# Altium footprint library CAP_RCE5C1H104J2A2H03B.PcbLib: 1 footprints
Each footprint in its own frame and in the unit in brackets; x right, y up, seen from the top. Pads: shape width x height; smd on the part's side, far side on the other; paste and mask are expansions set on the pad; w line width, h text height; cw(c..) or ccw(c..) is an arc to the next point about the centre after c.
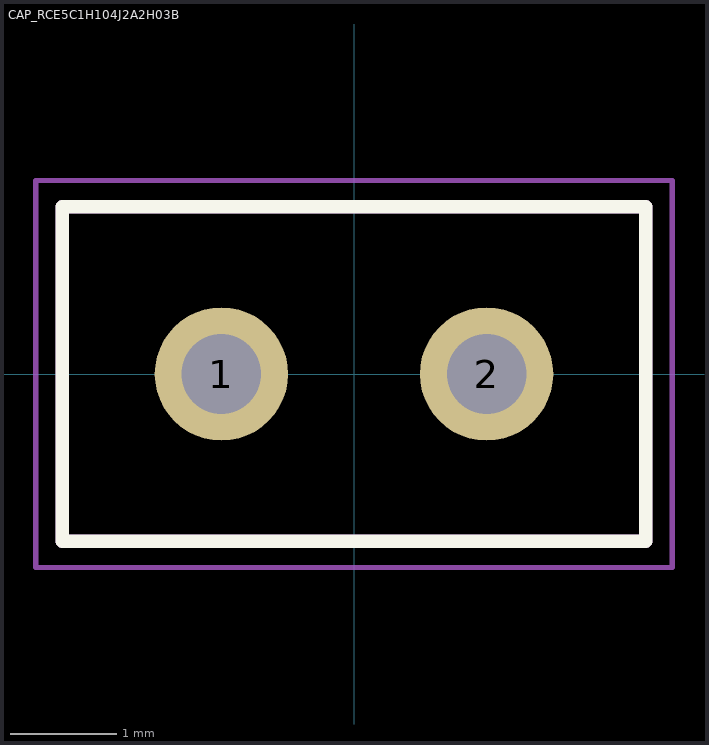
[diagram p0: the footprint, top view; thin cyan lines are the x and y axes]

## CAP_RCE5C1H104J2A2H03B [mm]
pads (2):
  round 1.258 hole 0.75: 1(-1.25,0) 2(1.25,0)
Top Overlay:
  lines w0.127: -2.75,-1.575 2.75,-1.575 2.75,1.575 -2.75,1.575 -2.75,-1.575
Mechanical 13:
  lines w0.127: -2.75,-1.575 -2.75,1.575 2.75,1.575 2.75,-1.575 -2.75,-1.575
Mechanical 15:
  lines w0.05: -3,-1.825 -3,1.825 3,1.825 3,-1.825 -3,-1.825
3D body "lead cap.STEP": height 5.5, standoff -23.5, extent -2.706,-1.575 2.794,1.575